# Altium integrated library Diodes - TVS.IntLib: 5379 symbols (part 65 of 122)
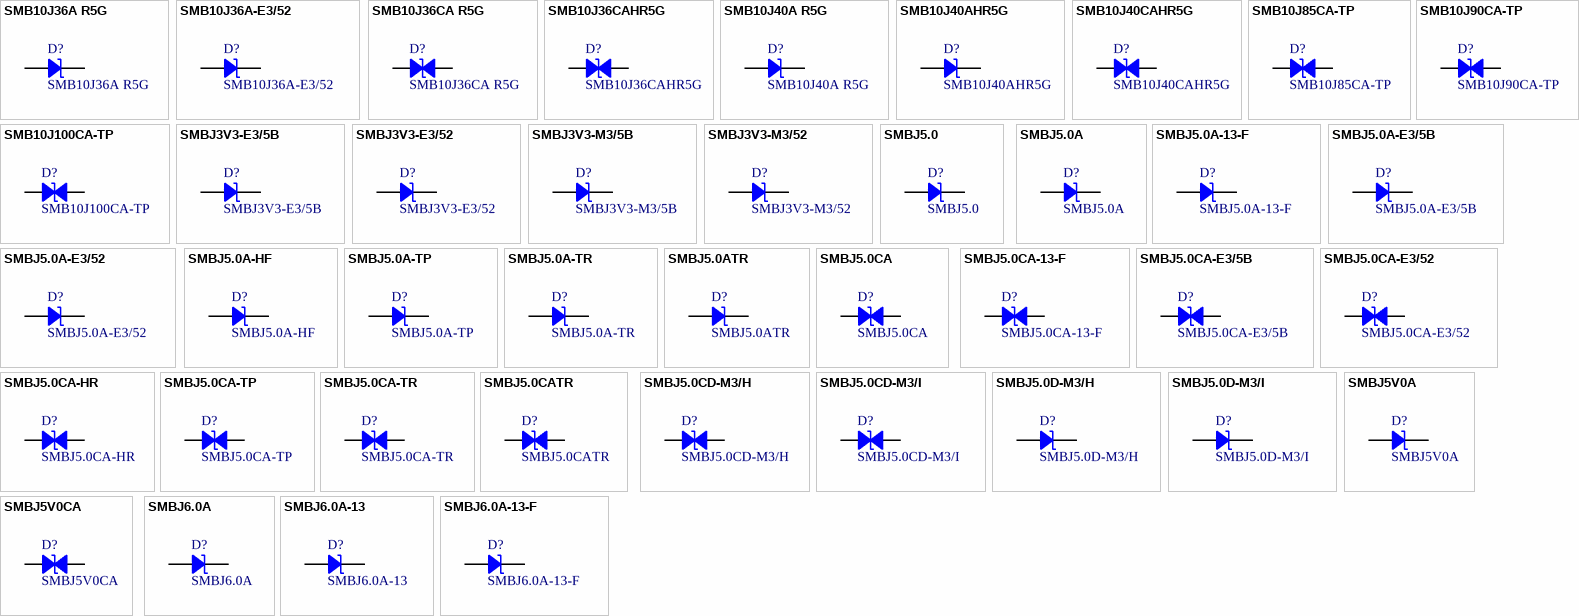
[diagram p198: symbols SMB10J36A R5G to SMBJ6.0A-13-F]

## SMBJ5.0CA-TP
designator D?
TVS DIODE 5V 9.2V DO214AA; Manufacturer: Micro Commercial Co; Bidirectional Channels: 1; Current - Peak Pulse (10/1000µs): 65.2A; Power Line Protection: No; Power - Peak Pulse: 600W; Type: Zener; Voltage - Breakdown (Min): 6.4V; Part Number: SMBJ5.0CA-TP; Applications: General Purpose; ComponentLink1Description: Datasheet; ComponentLink1URL: https://www.mccsemi.com/pdf/Products/SMBJ5.0-SMBJ440CA(DO-214AA).pdf; ComponentLink2Description: DigiKey Link; ComponentLink2URL: http://digikey.com/product-detail/en/micro-commercial-co/SMBJ5.0CA-TP/SMBJ5.0CA-TPMSCT-ND/1200635; LastUpdated: 9/2/2020 1:28:21 AM; Lifecycle Status: Active; Minimum Order: 1; Mounting Type: Surface Mount; Operating Temperature: -55°C ~ 175°C (TJ); Package / Case: DO-214AA, SMB; Packaging: TapeAndReel; PartId: 9555; Part Status: Active; Price: 0.10; Series: -; Supplier 1: DigiKey; Supplier Part Number 1: SMBJ5.0CA-TPMSCT-ND; Supplier Device Package: DO-214AA (SMB); Voltage - Clamping (Max) @ Ipp: 9.2V; Voltage - Reverse Standoff (Typ): 5V
footprint DO214AA SMB
pins: 1, 2

## SMBJ5.0CA-TR
designator D?
TVS DIODE 5V 13.4V SMB; Manufacturer: STMicroelectronics; Bidirectional Channels: 1; Current - Peak Pulse (10/1000µs): 68A; Power Line Protection: No; Power - Peak Pulse: 600W; Type: Zener; Voltage - Breakdown (Min): 6.4V; Voltage - Clamping (Max) @ Ipp: 9.2V; Part Number: SMBJ5.0CA-TR; Applications: General Purpose; ComponentLink1Description: Datasheet; ComponentLink1URL: http://www.st.com/content/ccc/resource/technical/document/datasheet/19/78/91/39/07/cd/40/65/CD00001366.pdf/files/CD00001366.pdf/_jcr_content/translations/en.CD00001366.pdf; ComponentLink2Description: DigiKey Link; ComponentLink2URL: http://digikey.com/product-detail/en/stmicroelectronics/SMBJ5.0CA-TR/497-3145-1-ND/654466; LastUpdated: 9/2/2020 1:28:22 AM; Lifecycle Status: Active; Minimum Order: 1; Mounting Type: Surface Mount; Operating Temperature: -55°C ~ 150°C (TJ); Package / Case: DO-214AA, SMB; Packaging: TapeAndReel; PartId: 9702; Part Status: Active; Price: 0.12; Series: SMBJ, TRANSIL™; Supplier 1: DigiKey; Supplier Part Number 1: 497-3145-1-ND; Supplier Device Package: SMB (DO-214AA); Voltage - Reverse Standoff (Typ): 5V
footprint DO214AA SMB
pins: 1, 2

## SMBJ5.0CATR
designator D?
TVS DIODE 5V 9.2V SMB; Manufacturer: SMC Diode Solutions; Bidirectional Channels: 1; Current - Peak Pulse (10/1000µs): 65.2A; Power Line Protection: No; Power - Peak Pulse: 600W; Type: Zener; Voltage - Breakdown (Min): 6.4V; Part Number: SMBJ5.0CATR; Applications: General Purpose; ComponentLink1Description: Datasheet; ComponentLink1URL: http://www.smc-diodes.com/propdf/SMBJ%20SERIES%20N0193%20REV.D.pdf; ComponentLink2Description: DigiKey Link; ComponentLink2URL: http://digikey.com/product-detail/en/smc-diode-solutions/SMBJ5.0CATR/1655-1635-1-ND/6023080; LastUpdated: 9/2/2020 1:28:22 AM; Lifecycle Status: Active; Minimum Order: 1; Mounting Type: Surface Mount; Operating Temperature: -55°C ~ 150°C (TJ); Package / Case: DO-214AA, SMB; Packaging: TapeAndReel; PartId: 9661; Part Status: Active; Price: 0.09; Series: SMBJ; Supplier 1: DigiKey; Supplier Part Number 1: 1655-1635-1-ND; Supplier Device Package: SMB (DO-214AA); Voltage - Clamping (Max) @ Ipp: 9.2V; Voltage - Reverse Standoff (Typ): 5V
footprint DO214AA SMB
pins: 1, 2

## SMBJ5.0CD-M3/H
designator D?
TVS DIODE 5V 9.1V DO214AA; Manufacturer: Vishay Semiconductor Diodes Division; Bidirectional Channels: 1; Current - Peak Pulse (10/1000µs): 65.9A; Power Line Protection: No; Power - Peak Pulse: 600W; Type: Zener; Voltage - Breakdown (Min): 6.5V; Part Number: SMBJ5.0CD-M3/H; Applications: General Purpose; ComponentLink1Description: Datasheet; ComponentLink1URL: http://www.vishay.com/docs/87606/87606.pdf; ComponentLink2Description: DigiKey Link; ComponentLink2URL: http://digikey.com/product-detail/en/vishay-semiconductor-diodes-division/SMBJ5.0CD-M3-H/SMBJ5.0CD-M3-HGICT-ND/5865074; LastUpdated: 9/2/2020 1:28:16 AM; Lifecycle Status: Active; Minimum Order: 1; Mounting Type: Surface Mount; Operating Temperature: -55°C ~ 150°C (TJ); Package / Case: DO-214AA, SMB; Packaging: TapeAndReel; PartId: 8937; Part Status: Active; Price: 0.20; Series: TransZorb®; Supplier 1: DigiKey; Supplier Part Number 1: SMBJ5.0CD-M3/HGICT-ND; Supplier Device Package: DO-214AA (SMBJ); Voltage - Clamping (Max) @ Ipp: 9.1V; Voltage - Reverse Standoff (Typ): 5V
footprint DO214AA SMB
pins: 1, 2

## SMBJ5.0CD-M3/I
designator D?
TVS DIODE 5V 9.1V DO214AA; Manufacturer: Vishay Semiconductor Diodes Division; Bidirectional Channels: 1; Current - Peak Pulse (10/1000µs): 65.9A; Power Line Protection: No; Power - Peak Pulse: 600W; Type: Zener; Voltage - Breakdown (Min): 6.5V; Part Number: SMBJ5.0CD-M3/I; Applications: General Purpose; ComponentLink1Description: Datasheet; ComponentLink1URL: http://www.vishay.com/docs/87606/87606.pdf; ComponentLink2Description: DigiKey Link; ComponentLink2URL: http://digikey.com/product-detail/en/vishay-semiconductor-diodes-division/SMBJ5.0CD-M3-I/SMBJ5.0CD-M3-IGICT-ND/7915520; LastUpdated: 9/2/2020 1:28:20 AM; Lifecycle Status: Active; Minimum Order: 1; Mounting Type: Surface Mount; Operating Temperature: -55°C ~ 150°C (TJ); Package / Case: DO-214AA, SMB; Packaging: TapeAndReel; PartId: 9385; Part Status: Active; Price: 0.13; Series: TransZorb®; Supplier 1: DigiKey; Supplier Part Number 1: SMBJ5.0CD-M3/IGICT-ND; Supplier Device Package: DO-214AA (SMBJ); Voltage - Clamping (Max) @ Ipp: 9.1V; Voltage - Reverse Standoff (Typ): 5V
footprint DO214AA SMB
pins: 1, 2

## SMBJ5.0D-M3/H
designator D?
TVS DIODE 5V 9.1V DO214AA; Manufacturer: Vishay Semiconductor Diodes Division; Current - Peak Pulse (10/1000µs): 65.9A; Power Line Protection: No; Power - Peak Pulse: 600W; Type: Zener; Unidirectional Channels: 1; Voltage - Breakdown (Min): 6.5V; Part Number: SMBJ5.0D-M3/H; Applications: General Purpose; ComponentLink1Description: Datasheet; ComponentLink1URL: http://www.vishay.com/docs/87606/87606.pdf; ComponentLink2Description: DigiKey Link; ComponentLink2URL: http://digikey.com/product-detail/en/vishay-semiconductor-diodes-division/SMBJ5.0D-M3-H/SMBJ5.0D-M3-HGICT-ND/5253056; LastUpdated: 9/2/2020 1:19:49 AM; Lifecycle Status: Active; Minimum Order: 1; Mounting Type: Surface Mount; Operating Temperature: -55°C ~ 150°C (TJ); Package / Case: DO-214AA, SMB; Packaging: TapeAndReel; PartId: 11193; Part Status: Active; Price: 0.15; Series: TransZorb®; Supplier 1: DigiKey; Supplier Part Number 1: SMBJ5.0D-M3/HGICT-ND; Supplier Device Package: DO-214AA (SMBJ); Voltage - Clamping (Max) @ Ipp: 9.1V; Voltage - Reverse Standoff (Typ): 5V
footprint DO214AA SMB
pins: 1, 2

## SMBJ5.0D-M3/I
designator D?
TVS DIODE 5V 9.1V DO214AA; Manufacturer: Vishay Semiconductor Diodes Division; Current - Peak Pulse (10/1000µs): 65.9A; Power Line Protection: No; Power - Peak Pulse: 600W; Type: Zener; Unidirectional Channels: 1; Voltage - Breakdown (Min): 6.5V; Part Number: SMBJ5.0D-M3/I; Applications: General Purpose; ComponentLink1Description: Datasheet; ComponentLink1URL: http://www.vishay.com/docs/87606/87606.pdf; ComponentLink2Description: DigiKey Link; ComponentLink2URL: http://digikey.com/product-detail/en/vishay-semiconductor-diodes-division/SMBJ5.0D-M3-I/SMBJ5.0D-M3-IGICT-ND/9601090; LastUpdated: 9/2/2020 1:19:47 AM; Lifecycle Status: Active; Minimum Order: 1; Mounting Type: Surface Mount; Operating Temperature: -55°C ~ 150°C (TJ); Package / Case: DO-214AA, SMB; Packaging: TapeAndReel; PartId: 10950; Part Status: Active; Price: 0.11; Series: TransZorb®; Supplier 1: DigiKey; Supplier Part Number 1: SMBJ5.0D-M3/IGICT-ND; Supplier Device Package: DO-214AA (SMBJ); Voltage - Clamping (Max) @ Ipp: 9.1V; Voltage - Reverse Standoff (Typ): 5V
footprint DO214AA SMB
pins: 1, 2

## SMBJ5V0A
designator D?
TVS DIODE 5V 9.2V DO214AA; Manufacturer: Taiwan Semiconductor Corporation; Current - Peak Pulse (10/1000µs): 65.2A; Power Line Protection: No; Power - Peak Pulse: 600W; Type: Zener; Unidirectional Channels: 1; Voltage - Breakdown (Min): 6.4V; Part Number: SMBJ5V0A; Applications: General Purpose; ComponentLink1Description: Datasheet; ComponentLink1URL: https://www.taiwansemi.com/products/datasheet/SMBJ%20SERIES_P1812.pdf; ComponentLink2Description: DigiKey Link; ComponentLink2URL: http://digikey.com/product-detail/en/taiwan-semiconductor-corporation/SMBJ5V0A/SMBJ5V0ACT-ND/1626272; LastUpdated: 9/2/2020 1:19:49 AM; Lifecycle Status: Active; Minimum Order: 1; Mounting Type: Surface Mount; Operating Temperature: -55°C ~ 150°C (TJ); Package / Case: DO-214AA, SMB; Packaging: TapeAndReel; PartId: 11125; Part Status: Active; Price: 0.14; Series: SMBJ; Supplier 1: DigiKey; Supplier Part Number 1: SMBJ5V0ACT-ND; Supplier Device Package: DO-214AA (SMB); Voltage - Clamping (Max) @ Ipp: 9.2V; Voltage - Reverse Standoff (Typ): 5V
footprint DO214AA SMB
pins: 1, 2

## SMBJ5V0CA
designator D?
TVS DIODE 5V 9.2V DO214AA; Manufacturer: Taiwan Semiconductor Corporation; Bidirectional Channels: 1; Current - Peak Pulse (10/1000µs): 65.2A; Power Line Protection: No; Power - Peak Pulse: 600W; Type: Zener; Voltage - Breakdown (Min): 6.4V; Part Number: SMBJ5V0CA; Applications: General Purpose; ComponentLink1Description: Datasheet; ComponentLink1URL: https://www.taiwansemi.com/products/datasheet/SMBJ5V0CA_F%20SERIES_A1806.pdf; ComponentLink2Description: DigiKey Link; ComponentLink2URL: http://digikey.com/product-detail/en/taiwan-semiconductor-corporation/SMBJ5V0CA/SMBJ5V0CACT-ND/2094453; LastUpdated: 9/2/2020 1:28:22 AM; Lifecycle Status: Active; Minimum Order: 1; Mounting Type: Surface Mount; Operating Temperature: -55°C ~ 150°C (TJ); Package / Case: DO-214AA, SMB; Packaging: TapeAndReel; PartId: 9626; Part Status: Active; Price: 0.17; Series: SMBJ; Supplier 1: DigiKey; Supplier Part Number 1: SMBJ5V0CACT-ND; Supplier Device Package: DO-214AA (SMB); Voltage - Clamping (Max) @ Ipp: 9.2V; Voltage - Reverse Standoff (Typ): 5V
footprint DO214AA SMB
pins: 1, 2

## SMBJ6.0A
designator D?
TVS DIODE 6V 10.3V SMB; Manufacturer: Bourns Inc.; Current - Peak Pulse (10/1000µs): 58.3A; Power Line Protection: No; Power - Peak Pulse: 600W; Type: Zener; Unidirectional Channels: 1; Voltage - Breakdown (Min): 6.67V; Part Number: SMBJ6.0A; Applications: General Purpose; ComponentLink1Description: Datasheet; ComponentLink1URL: https://www.bourns.com/docs/Product-Datasheets/SMBJ.pdf; ComponentLink2Description: DigiKey Link; ComponentLink2URL: http://digikey.com/product-detail/en/bourns-inc/SMBJ6.0A/SMBJ6.0ABCT-ND/2254181; LastUpdated: 9/2/2020 1:19:50 AM; Lifecycle Status: Active; Minimum Order: 1; Mounting Type: Surface Mount; Operating Temperature: -55°C ~ 150°C (TJ); Package / Case: DO-214AA, SMB; Packaging: TapeAndReel; PartId: 11232; Part Status: Active; Price: 0.10; Series: SMBJ; Supplier 1: DigiKey; Supplier Part Number 1: SMBJ6.0ABCT-ND; Supplier Device Package: SMB (DO-214AA); Voltage - Clamping (Max) @ Ipp: 10.3V; Voltage - Reverse Standoff (Typ): 6V
footprint DO214AA SMB
pins: 1, 2

## SMBJ6.0A-13
designator D?
TVS DIODE 6V 10.3V SMB; Manufacturer: Diodes Incorporated; Current - Peak Pulse (10/1000µs): 58.3A; Power Line Protection: No; Power - Peak Pulse: 600W; Type: Zener; Unidirectional Channels: 1; Voltage - Breakdown (Min): 6.67V; Part Number: SMBJ6.0A-13; Applications: General Purpose; ComponentLink1Description: Datasheet; ComponentLink1URL: //media.digikey.com/pdf/Data%20Sheets/Diodes%20PDFs/SMBJ5.0(C)A~SMBJ170(C)A.pdf; ComponentLink2Description: DigiKey Link; ComponentLink2URL: http://digikey.com/product-detail/en/diodes-incorporated/SMBJ6.0A-13/SMBJ6.0ADITR-ND/370737; LastUpdated: 9/2/2020 1:19:43 AM; Lifecycle Status: Active; Minimum Order: 0; Mounting Type: Surface Mount; Operating Temperature: -55°C ~ 150°C (TJ); Package / Case: DO-214AA, SMB; Packaging: TapeAndReel; PartId: 10587; Part Status: Active; Price: 0.32; Series: SMBJ; Supplier 1: DigiKey; Supplier Part Number 1: SMBJ6.0ADITR-ND; Supplier Device Package: SMB; Voltage - Clamping (Max) @ Ipp: 10.3V; Voltage - Reverse Standoff (Typ): 6V
footprint DO214AA SMB
pins: 1, 2

## SMBJ6.0A-13-F
designator D?
TVS DIODE 6V 10.3V SMB; Manufacturer: Diodes Incorporated; Current - Peak Pulse (10/1000µs): 58.3A; Power Line Protection: No; Power - Peak Pulse: 600W; Type: Zener; Unidirectional Channels: 1; Voltage - Breakdown (Min): 6.67V; Part Number: SMBJ6.0A-13-F; Applications: General Purpose; ComponentLink1Description: Datasheet; ComponentLink1URL: https://www.diodes.com/assets/Datasheets/ds19002.pdf; ComponentLink2Description: DigiKey Link; ComponentLink2URL: http://digikey.com/product-detail/en/diodes-incorporated/SMBJ6.0A-13-F/SMBJ6.0A-FDICT-ND/816091; LastUpdated: 9/2/2020 1:19:50 AM; Lifecycle Status: Active; Minimum Order: 1; Mounting Type: Surface Mount; Operating Temperature: -55°C ~ 150°C (TJ); Package / Case: DO-214AA, SMB; Packaging: TapeAndReel; PartId: 11243; Part Status: Active; Price: 0.09; Series: SMBJ; Supplier 1: DigiKey; Supplier Part Number 1: SMBJ6.0A-FDICT-ND; Supplier Device Package: SMB; Voltage - Clamping (Max) @ Ipp: 10.3V; Voltage - Reverse Standoff (Typ): 6V
footprint DO214AA SMB
pins: 1, 2

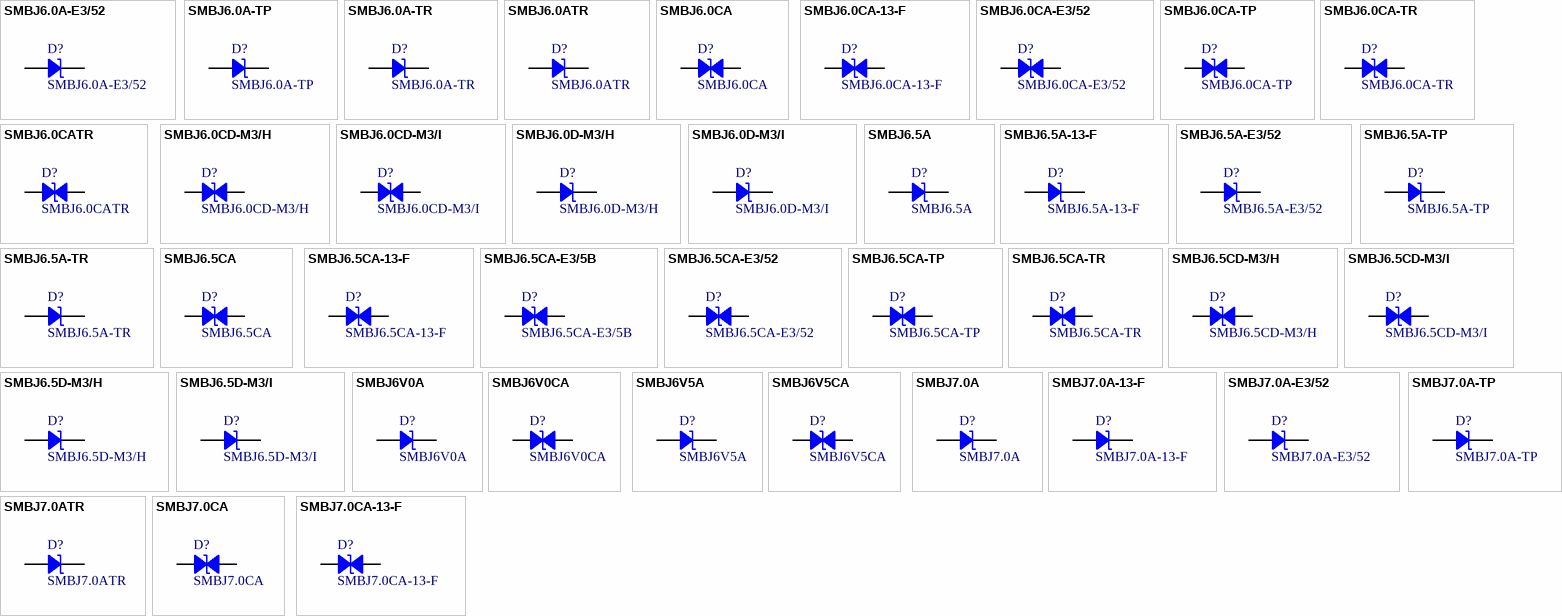
[diagram p71: symbols SMBJ6.0A-E3/52 to SMBJ7.0CA-13-F]

## SMBJ6.0A-E3/52
designator D?
TVS DIODE 6V 10.3V DO214AA; Manufacturer: Vishay Semiconductor Diodes Division; Current - Peak Pulse (10/1000µs): 58.3A; Power Line Protection: No; Power - Peak Pulse: 600W; Type: Zener; Unidirectional Channels: 1; Voltage - Breakdown (Min): 6.67V; Part Number: SMBJ6.0A-E3/52; Applications: General Purpose; ComponentLink1Description: Datasheet; ComponentLink1URL: http://www.vishay.com/docs/88392/smbj.pdf; ComponentLink2Description: DigiKey Link; ComponentLink2URL: http://digikey.com/product-detail/en/vishay-semiconductor-diodes-division/SMBJ6.0A-E3-52/SMBJ6.0A-E3-52GICT-ND/2413374; LastUpdated: 9/2/2020 1:19:49 AM; Lifecycle Status: Active; Minimum Order: 1; Mounting Type: Surface Mount; Operating Temperature: -55°C ~ 150°C (TJ); Package / Case: DO-214AA, SMB; Packaging: TapeAndReel; PartId: 11112; Part Status: Active; Price: 0.15; Series: TransZorb®; Supplier 1: DigiKey; Supplier Part Number 1: SMBJ6.0A-E3/52GICT-ND; Supplier Device Package: DO-214AA (SMBJ); Voltage - Clamping (Max) @ Ipp: 10.3V; Voltage - Reverse Standoff (Typ): 6V
footprint DO214AA SMB
pins: 1, 2

## SMBJ6.0A-TP
designator D?
TVS DIODE 6V 10.3V DO214AA; Manufacturer: Micro Commercial Co; Current - Peak Pulse (10/1000µs): 58.3A; Power Line Protection: No; Power - Peak Pulse: 600W; Type: Zener; Unidirectional Channels: 1; Voltage - Breakdown (Min): 6.67V; Part Number: SMBJ6.0A-TP; Applications: General Purpose; ComponentLink1Description: Datasheet; ComponentLink1URL: https://www.mccsemi.com/pdf/Products/SMBJ5.0-SMBJ440CA(DO-214AA).pdf; ComponentLink2Description: DigiKey Link; ComponentLink2URL: http://digikey.com/product-detail/en/micro-commercial-co/SMBJ6.0A-TP/SMBJ6.0A-TPMSCT-ND/1200636; LastUpdated: 9/2/2020 1:19:48 AM; Lifecycle Status: Active; Minimum Order: 1; Mounting Type: Surface Mount; Operating Temperature: -55°C ~ 175°C (TJ); Package / Case: DO-214AA, SMB; Packaging: TapeAndReel; PartId: 11053; Part Status: Active; Price: 0.10; Series: -; Supplier 1: DigiKey; Supplier Part Number 1: SMBJ6.0A-TPMSCT-ND; Supplier Device Package: DO-214AA (SMB); Voltage - Clamping (Max) @ Ipp: 10.3V; Voltage - Reverse Standoff (Typ): 6V
footprint DO214AA SMB
pins: 1, 2

## SMBJ6.0A-TR
designator D?
TVS DIODE 6V 13.7V SMB; Manufacturer: STMicroelectronics; Current - Peak Pulse (10/1000µs): 61A; Power Line Protection: No; Power - Peak Pulse: 600W; Type: Zener; Unidirectional Channels: 1; Voltage - Breakdown (Min): 6.7V; Voltage - Clamping (Max) @ Ipp: 10.3V; Part Number: SMBJ6.0A-TR; Applications: General Purpose; ComponentLink1Description: Datasheet; ComponentLink1URL: http://www.st.com/content/ccc/resource/technical/document/datasheet/19/78/91/39/07/cd/40/65/CD00001366.pdf/files/CD00001366.pdf/_jcr_content/translations/en.CD00001366.pdf; ComponentLink2Description: DigiKey Link; ComponentLink2URL: http://digikey.com/product-detail/en/stmicroelectronics/SMBJ6.0A-TR/497-3006-1-ND/634878; LastUpdated: 9/2/2020 1:19:49 AM; Lifecycle Status: Active; Minimum Order: 1; Mounting Type: Surface Mount; Operating Temperature: -55°C ~ 150°C (TJ); Package / Case: DO-214AA, SMB; Packaging: TapeAndReel; PartId: 11134; Part Status: Active; Price: 0.12; Series: SMBJ, TRANSIL™; Supplier 1: DigiKey; Supplier Part Number 1: 497-3006-1-ND; Supplier Device Package: SMB (DO-214AA); Voltage - Reverse Standoff (Typ): 6V
footprint DO214AA SMB
pins: 1, 2

## SMBJ6.0ATR
designator D?
TVS DIODE 6V 10.3V SMB; Manufacturer: SMC Diode Solutions; Current - Peak Pulse (10/1000µs): 58.3A; Power Line Protection: No; Power - Peak Pulse: 600W; Type: Zener; Unidirectional Channels: 1; Voltage - Breakdown (Min): 6.67V; Part Number: SMBJ6.0ATR; Applications: General Purpose; ComponentLink1Description: Datasheet; ComponentLink1URL: http://www.smc-diodes.com/propdf/SMBJ%20SERIES%20N0193%20REV.D.pdf; ComponentLink2Description: DigiKey Link; ComponentLink2URL: http://digikey.com/product-detail/en/smc-diode-solutions/SMBJ6.0ATR/1655-1638-1-ND/6023083; LastUpdated: 9/2/2020 1:19:51 AM; Lifecycle Status: Active; Minimum Order: 1; Mounting Type: Surface Mount; Operating Temperature: -55°C ~ 150°C (TJ); Package / Case: DO-214AA, SMB; Packaging: TapeAndReel; PartId: 11366; Part Status: Active; Price: 0.09; Series: SMBJ; Supplier 1: DigiKey; Supplier Part Number 1: 1655-1638-1-ND; Supplier Device Package: SMB (DO-214AA); Voltage - Clamping (Max) @ Ipp: 10.3V; Voltage - Reverse Standoff (Typ): 6V
footprint DO214AA SMB
pins: 1, 2

## SMBJ6.0CA
designator D?
TVS DIODE 6V 10.3V SMB; Manufacturer: Bourns Inc.; Bidirectional Channels: 1; Current - Peak Pulse (10/1000µs): 58.3A; Power Line Protection: No; Power - Peak Pulse: 600W; Type: Zener; Voltage - Breakdown (Min): 6.67V; Part Number: SMBJ6.0CA; Applications: General Purpose; ComponentLink1Description: Datasheet; ComponentLink1URL: https://www.bourns.com/docs/Product-Datasheets/SMBJ.pdf; ComponentLink2Description: DigiKey Link; ComponentLink2URL: http://digikey.com/product-detail/en/bourns-inc/SMBJ6.0CA/SMBJ6.0CABCT-ND/2254140; LastUpdated: 9/2/2020 1:28:19 AM; Lifecycle Status: Active; Minimum Order: 1; Mounting Type: Surface Mount; Operating Temperature: -55°C ~ 150°C (TJ); Package / Case: DO-214AA, SMB; Packaging: TapeAndReel; PartId: 9263; Part Status: Active; Price: 0.10; Series: SMBJ; Supplier 1: DigiKey; Supplier Part Number 1: SMBJ6.0CABCT-ND; Supplier Device Package: SMB (DO-214AA); Voltage - Clamping (Max) @ Ipp: 10.3V; Voltage - Reverse Standoff (Typ): 6V
footprint DO214AA SMB
pins: 1, 2

## SMBJ6.0CA-13-F
designator D?
TVS DIODE 6V 10.3V SMB; Manufacturer: Diodes Incorporated; Bidirectional Channels: 1; Current - Peak Pulse (10/1000µs): 58.3A; Power Line Protection: No; Power - Peak Pulse: 600W; Type: Zener; Voltage - Breakdown (Min): 6.67V; Part Number: SMBJ6.0CA-13-F; Applications: General Purpose; ComponentLink1Description: Datasheet; ComponentLink1URL: https://www.diodes.com/assets/Datasheets/ds19002.pdf; ComponentLink2Description: DigiKey Link; ComponentLink2URL: http://digikey.com/product-detail/en/diodes-incorporated/SMBJ6.0CA-13-F/SMBJ6.0CA-FDICT-ND/806585; LastUpdated: 9/2/2020 1:28:19 AM; Lifecycle Status: Active; Minimum Order: 1; Mounting Type: Surface Mount; Operating Temperature: -55°C ~ 150°C (TJ); Package / Case: DO-214AA, SMB; Packaging: TapeAndReel; PartId: 9287; Part Status: Active; Price: 0.10; Series: SMBJ; Supplier 1: DigiKey; Supplier Part Number 1: SMBJ6.0CA-FDICT-ND; Supplier Device Package: SMB; Voltage - Clamping (Max) @ Ipp: 10.3V; Voltage - Reverse Standoff (Typ): 6V
footprint DO214AA SMB
pins: 1, 2

## SMBJ6.0CA-E3/52
designator D?
TVS DIODE 6V 10.3V DO214AA; Manufacturer: Vishay Semiconductor Diodes Division; Bidirectional Channels: 1; Current - Peak Pulse (10/1000µs): 58.3A; Power Line Protection: No; Power - Peak Pulse: 600W; Type: Zener; Voltage - Breakdown (Min): 6.67V; Part Number: SMBJ6.0CA-E3/52; Applications: General Purpose; ComponentLink1Description: Datasheet; ComponentLink1URL: http://www.vishay.com/docs/88392/smbj.pdf; ComponentLink2Description: DigiKey Link; ComponentLink2URL: http://digikey.com/product-detail/en/vishay-semiconductor-diodes-division/SMBJ6.0CA-E3-52/SMBJ6.0CA-E3-52GICT-ND/2413473; LastUpdated: 9/2/2020 1:28:21 AM; Lifecycle Status: Active; Minimum Order: 1; Mounting Type: Surface Mount; Operating Temperature: -55°C ~ 150°C (TJ); Package / Case: DO-214AA, SMB; Packaging: TapeAndReel; PartId: 9464; Part Status: Active; Price: 0.19; Series: TransZorb®; Supplier 1: DigiKey; Supplier Part Number 1: SMBJ6.0CA-E3/52GICT-ND; Supplier Device Package: DO-214AA (SMBJ); Voltage - Clamping (Max) @ Ipp: 10.3V; Voltage - Reverse Standoff (Typ): 6V
footprint DO214AA SMB
pins: 1, 2

## SMBJ6.0CA-TP
designator D?
TVS DIODE 6V 10.3V DO214AA; Manufacturer: Micro Commercial Co; Bidirectional Channels: 1; Current - Peak Pulse (10/1000µs): 58.3A; Power Line Protection: No; Power - Peak Pulse: 600W; Type: Zener; Voltage - Breakdown (Min): 6.67V; Part Number: SMBJ6.0CA-TP; Applications: General Purpose; ComponentLink1Description: Datasheet; ComponentLink1URL: https://www.mccsemi.com/pdf/Products/SMBJ5.0-SMBJ440CA(DO-214AA).pdf; ComponentLink2Description: DigiKey Link; ComponentLink2URL: http://digikey.com/product-detail/en/micro-commercial-co/SMBJ6.0CA-TP/SMBJ6.0CA-TPMSCT-ND/1200637; LastUpdated: 9/2/2020 1:28:18 AM; Lifecycle Status: Active; Minimum Order: 1; Mounting Type: Surface Mount; Operating Temperature: -55°C ~ 175°C (TJ); Package / Case: DO-214AA, SMB; Packaging: TapeAndReel; PartId: 9190; Part Status: Active; Price: 0.10; Series: -; Supplier 1: DigiKey; Supplier Part Number 1: SMBJ6.0CA-TPMSCT-ND; Supplier Device Package: DO-214AA (SMB); Voltage - Clamping (Max) @ Ipp: 10.3V; Voltage - Reverse Standoff (Typ): 6V
footprint DO214AA SMB
pins: 1, 2

## SMBJ6.0CA-TR
designator D?
TVS DIODE 6V 13.7V SMB; Manufacturer: STMicroelectronics; Bidirectional Channels: 1; Current - Peak Pulse (10/1000µs): 61A; Power Line Protection: No; Power - Peak Pulse: 600W; Type: Zener; Voltage - Breakdown (Min): 6.7V; Voltage - Clamping (Max) @ Ipp: 10.3V; Part Number: SMBJ6.0CA-TR; Applications: General Purpose; ComponentLink1Description: Datasheet; ComponentLink1URL: http://www.st.com/content/ccc/resource/technical/document/datasheet/19/78/91/39/07/cd/40/65/CD00001366.pdf/files/CD00001366.pdf/_jcr_content/translations/en.CD00001366.pdf; ComponentLink2Description: DigiKey Link; ComponentLink2URL: http://digikey.com/product-detail/en/stmicroelectronics/SMBJ6.0CA-TR/497-7454-1-ND/1883415; LastUpdated: 9/2/2020 1:28:15 AM; Lifecycle Status: Active; Minimum Order: 1; Mounting Type: Surface Mount; Operating Temperature: -55°C ~ 150°C (TJ); Package / Case: DO-214AA, SMB; Packaging: TapeAndReel; PartId: 8880; Part Status: Active; Price: 0.10; Series: SMBJ, TRANSIL™; Supplier 1: DigiKey; Supplier Part Number 1: 497-7454-1-ND; Supplier Device Package: SMB (DO-214AA); Voltage - Reverse Standoff (Typ): 6V
footprint DO214AA SMB
pins: 1, 2

## SMBJ6.0CATR
designator D?
TVS DIODE 6V 10.3V SMB; Manufacturer: SMC Diode Solutions; Bidirectional Channels: 1; Current - Peak Pulse (10/1000µs): 58.3A; Power Line Protection: No; Power - Peak Pulse: 600W; Type: Zener; Voltage - Breakdown (Min): 6.67V; Part Number: SMBJ6.0CATR; Applications: General Purpose; ComponentLink1Description: Datasheet; ComponentLink1URL: http://www.smc-diodes.com/propdf/SMBJ%20SERIES%20N0193%20REV.D.pdf; ComponentLink2Description: DigiKey Link; ComponentLink2URL: http://digikey.com/product-detail/en/smc-diode-solutions/SMBJ6.0CATR/1655-1639-1-ND/6023084; LastUpdated: 9/2/2020 1:28:18 AM; Lifecycle Status: Active; Minimum Order: 1; Mounting Type: Surface Mount; Operating Temperature: -55°C ~ 150°C (TJ); Package / Case: DO-214AA, SMB; Packaging: TapeAndReel; PartId: 9203; Part Status: Active; Price: 0.09; Series: SMBJ; Supplier 1: DigiKey; Supplier Part Number 1: 1655-1639-1-ND; Supplier Device Package: SMB (DO-214AA); Voltage - Clamping (Max) @ Ipp: 10.3V; Voltage - Reverse Standoff (Typ): 6V
footprint DO214AA SMB
pins: 1, 2

## SMBJ6.0CD-M3/H
designator D?
TVS DIODE 6V 10.2V DO214AA; Manufacturer: Vishay Semiconductor Diodes Division; Bidirectional Channels: 1; Current - Peak Pulse (10/1000µs): 58.9A; Power Line Protection: No; Power - Peak Pulse: 600W; Type: Zener; Voltage - Breakdown (Min): 6.77V; Part Number: SMBJ6.0CD-M3/H; Applications: General Purpose; ComponentLink1Description: Datasheet; ComponentLink1URL: http://www.vishay.com/docs/87606/87606.pdf; ComponentLink2Description: DigiKey Link; ComponentLink2URL: http://digikey.com/product-detail/en/vishay-semiconductor-diodes-division/SMBJ6.0CD-M3-H/SMBJ6.0CD-M3-HGICT-ND/5956723; LastUpdated: 9/2/2020 1:28:17 AM; Lifecycle Status: Active; Minimum Order: 1; Mounting Type: Surface Mount; Operating Temperature: -55°C ~ 150°C (TJ); Package / Case: DO-214AA, SMB; Packaging: TapeAndReel; PartId: 9050; Part Status: Active; Price: 0.20; Series: TransZorb®; Supplier 1: DigiKey; Supplier Part Number 1: SMBJ6.0CD-M3/HGICT-ND; Supplier Device Package: DO-214AA (SMBJ); Voltage - Clamping (Max) @ Ipp: 10.2V; Voltage - Reverse Standoff (Typ): 6V
footprint DO214AA SMB
pins: 1, 2

## SMBJ6.0CD-M3/I
designator D?
TVS DIODE 6V 10.2V DO214AA; Manufacturer: Vishay Semiconductor Diodes Division; Bidirectional Channels: 1; Current - Peak Pulse (10/1000µs): 58.9A; Power Line Protection: No; Power - Peak Pulse: 600W; Type: Zener; Voltage - Breakdown (Min): 6.77V; Part Number: SMBJ6.0CD-M3/I; Applications: General Purpose; ComponentLink1Description: Datasheet; ComponentLink1URL: http://www.vishay.com/docs/87606/87606.pdf; ComponentLink2Description: DigiKey Link; ComponentLink2URL: http://digikey.com/product-detail/en/vishay-semiconductor-diodes-division/SMBJ6.0CD-M3-I/SMBJ6.0CD-M3-IGICT-ND/9648437; LastUpdated: 9/2/2020 1:28:21 AM; Lifecycle Status: Active; Minimum Order: 1; Mounting Type: Surface Mount; Operating Temperature: -55°C ~ 150°C (TJ); Package / Case: DO-214AA, SMB; Packaging: TapeAndReel; PartId: 9482; Part Status: Active; Price: 0.13; Series: TransZorb®; Supplier 1: DigiKey; Supplier Part Number 1: SMBJ6.0CD-M3/IGICT-ND; Supplier Device Package: DO-214AA (SMBJ); Voltage - Clamping (Max) @ Ipp: 10.2V; Voltage - Reverse Standoff (Typ): 6V
footprint DO214AA SMB
pins: 1, 2

## SMBJ6.0D-M3/H
designator D?
TVS DIODE 6V 10.2V DO214AA; Manufacturer: Vishay Semiconductor Diodes Division; Current - Peak Pulse (10/1000µs): 58.9A; Power Line Protection: No; Power - Peak Pulse: 600W; Type: Zener; Unidirectional Channels: 1; Voltage - Breakdown (Min): 6.77V; Part Number: SMBJ6.0D-M3/H; Applications: General Purpose; ComponentLink1Description: Datasheet; ComponentLink1URL: http://www.vishay.com/docs/87606/87606.pdf; ComponentLink2Description: DigiKey Link; ComponentLink2URL: http://digikey.com/product-detail/en/vishay-semiconductor-diodes-division/SMBJ6.0D-M3-H/SMBJ6.0D-M3-HGICT-ND/5253057; LastUpdated: 9/2/2020 1:19:51 AM; Lifecycle Status: Active; Minimum Order: 1; Mounting Type: Surface Mount; Operating Temperature: -55°C ~ 150°C (TJ); Package / Case: DO-214AA, SMB; Packaging: TapeAndReel; PartId: 11385; Part Status: Active; Price: 0.15; Series: TransZorb®; Supplier 1: DigiKey; Supplier Part Number 1: SMBJ6.0D-M3/HGICT-ND; Supplier Device Package: DO-214AA (SMBJ); Voltage - Clamping (Max) @ Ipp: 10.2V; Voltage - Reverse Standoff (Typ): 6V
footprint DO214AA SMB
pins: 1, 2

## SMBJ6.0D-M3/I
designator D?
TVS DIODE 6V 10.2V DO214AA; Manufacturer: Vishay Semiconductor Diodes Division; Current - Peak Pulse (10/1000µs): 58.9A; Power Line Protection: No; Power - Peak Pulse: 600W; Type: Zener; Unidirectional Channels: 1; Voltage - Breakdown (Min): 6.77V; Part Number: SMBJ6.0D-M3/I; Applications: General Purpose; ComponentLink1Description: Datasheet; ComponentLink1URL: http://www.vishay.com/docs/87606/87606.pdf; ComponentLink2Description: DigiKey Link; ComponentLink2URL: http://digikey.com/product-detail/en/vishay-semiconductor-diodes-division/SMBJ6.0D-M3-I/SMBJ6.0D-M3-IGICT-ND/9648438; LastUpdated: 9/2/2020 1:19:48 AM; Lifecycle Status: Active; Minimum Order: 1; Mounting Type: Surface Mount; Operating Temperature: -55°C ~ 150°C (TJ); Package / Case: DO-214AA, SMB; Packaging: TapeAndReel; PartId: 11092; Part Status: Active; Price: 0.11; Series: TransZorb®; Supplier 1: DigiKey; Supplier Part Number 1: SMBJ6.0D-M3/IGICT-ND; Supplier Device Package: DO-214AA (SMBJ); Voltage - Clamping (Max) @ Ipp: 10.2V; Voltage - Reverse Standoff (Typ): 6V
footprint DO214AA SMB
pins: 1, 2

## SMBJ6.5A
designator D?
TVS DIODE 6.5V 11.2V SMB; Manufacturer: Bourns Inc.; Current - Peak Pulse (10/1000µs): 53.6A; Power Line Protection: No; Power - Peak Pulse: 600W; Type: Zener; Unidirectional Channels: 1; Voltage - Breakdown (Min): 7.22V; Part Number: SMBJ6.5A; Applications: General Purpose; ComponentLink1Description: Datasheet; ComponentLink1URL: https://www.bourns.com/docs/Product-Datasheets/SMBJ.pdf; ComponentLink2Description: DigiKey Link; ComponentLink2URL: http://digikey.com/product-detail/en/bourns-inc/SMBJ6.5A/SMBJ6.5ABCT-ND/2254177; LastUpdated: 9/2/2020 1:19:47 AM; Lifecycle Status: Active; Minimum Order: 1; Mounting Type: Surface Mount; Operating Temperature: -55°C ~ 150°C (TJ); Package / Case: DO-214AA, SMB; Packaging: TapeAndReel; PartId: 10896; Part Status: Active; Price: 0.09; Series: SMBJ; Supplier 1: DigiKey; Supplier Part Number 1: SMBJ6.5ABCT-ND; Supplier Device Package: SMB (DO-214AA); Voltage - Clamping (Max) @ Ipp: 11.2V; Voltage - Reverse Standoff (Typ): 6.5V
footprint DO214AA SMB
pins: 1, 2

## SMBJ6.5A-13-F
designator D?
TVS DIODE 6.5V 11.2V SMB; Manufacturer: Diodes Incorporated; Current - Peak Pulse (10/1000µs): 53.6A; Power Line Protection: No; Power - Peak Pulse: 600W; Type: Zener; Unidirectional Channels: 1; Voltage - Breakdown (Min): 7.22V; Part Number: SMBJ6.5A-13-F; Applications: General Purpose; ComponentLink1Description: Datasheet; ComponentLink1URL: https://www.diodes.com/assets/Datasheets/ds19002.pdf; ComponentLink2Description: DigiKey Link; ComponentLink2URL: http://digikey.com/product-detail/en/diodes-incorporated/SMBJ6.5A-13-F/SMBJ6.5A-FDICT-ND/768846; LastUpdated: 9/2/2020 1:19:50 AM; Lifecycle Status: Active; Minimum Order: 1; Mounting Type: Surface Mount; Operating Temperature: -55°C ~ 150°C (TJ); Package / Case: DO-214AA, SMB; Packaging: TapeAndReel; PartId: 11240; Part Status: Active; Price: 0.09; Series: SMBJ; Supplier 1: DigiKey; Supplier Part Number 1: SMBJ6.5A-FDICT-ND; Supplier Device Package: SMB; Voltage - Clamping (Max) @ Ipp: 11.2V; Voltage - Reverse Standoff (Typ): 6.5V
footprint DO214AA SMB
pins: 1, 2

## SMBJ6.5A-E3/52
designator D?
TVS DIODE 6.5V 11.2V DO214AA; Manufacturer: Vishay Semiconductor Diodes Division; Current - Peak Pulse (10/1000µs): 53.6A; Power Line Protection: No; Power - Peak Pulse: 600W; Type: Zener; Unidirectional Channels: 1; Voltage - Breakdown (Min): 7.22V; Part Number: SMBJ6.5A-E3/52; Applications: General Purpose; ComponentLink1Description: Datasheet; ComponentLink1URL: http://www.vishay.com/docs/88392/smbj.pdf; ComponentLink2Description: DigiKey Link; ComponentLink2URL: http://digikey.com/product-detail/en/vishay-semiconductor-diodes-division/SMBJ6.5A-E3-52/SMBJ6.5A-E3-52GICT-ND/2413365; LastUpdated: 9/2/2020 1:19:51 AM; Lifecycle Status: Active; Minimum Order: 1; Mounting Type: Surface Mount; Operating Temperature: -55°C ~ 150°C (TJ); Package / Case: DO-214AA, SMB; Packaging: TapeAndReel; PartId: 11383; Part Status: Active; Price: 0.15; Series: TransZorb®; Supplier 1: DigiKey; Supplier Part Number 1: SMBJ6.5A-E3/52GICT-ND; Supplier Device Package: DO-214AA (SMBJ); Voltage - Clamping (Max) @ Ipp: 11.2V; Voltage - Reverse Standoff (Typ): 6.5V
footprint DO214AA SMB
pins: 1, 2

## SMBJ6.5A-TP
designator D?
TVS DIODE 6.5V 11.2V DO214AA; Manufacturer: Micro Commercial Co; Current - Peak Pulse (10/1000µs): 53.6A; Power Line Protection: No; Power - Peak Pulse: 600W; Type: Zener; Unidirectional Channels: 1; Voltage - Breakdown (Min): 7.22V; Part Number: SMBJ6.5A-TP; Applications: General Purpose; ComponentLink1Description: Datasheet; ComponentLink1URL: https://www.mccsemi.com/pdf/Products/SMBJ5.0-SMBJ440CA(DO-214AA).pdf; ComponentLink2Description: DigiKey Link; ComponentLink2URL: http://digikey.com/product-detail/en/micro-commercial-co/SMBJ6.5A-TP/SMBJ6.5A-TPMSCT-ND/1200638; LastUpdated: 9/2/2020 1:19:46 AM; Lifecycle Status: Active; Minimum Order: 1; Mounting Type: Surface Mount; Operating Temperature: -55°C ~ 175°C (TJ); Package / Case: DO-214AA, SMB; Packaging: TapeAndReel; PartId: 10863; Part Status: Active; Price: 0.10; Series: -; Supplier 1: DigiKey; Supplier Part Number 1: SMBJ6.5A-TPMSCT-ND; Supplier Device Package: DO-214AA (SMB); Voltage - Clamping (Max) @ Ipp: 11.2V; Voltage - Reverse Standoff (Typ): 6.5V
footprint DO214AA SMB
pins: 1, 2

## SMBJ6.5A-TR
designator D?
TVS DIODE 6.5V 14.5V SMB; Manufacturer: STMicroelectronics; Current - Peak Pulse (10/1000µs): 56A; Power Line Protection: No; Power - Peak Pulse: 600W; Type: Zener; Unidirectional Channels: 1; Voltage - Breakdown (Min): 7.2V; Voltage - Clamping (Max) @ Ipp: 11.2V; Part Number: SMBJ6.5A-TR; Applications: General Purpose; ComponentLink1Description: Datasheet; ComponentLink1URL: http://www.st.com/content/ccc/resource/technical/document/datasheet/19/78/91/39/07/cd/40/65/CD00001366.pdf/files/CD00001366.pdf/_jcr_content/translations/en.CD00001366.pdf; ComponentLink2Description: DigiKey Link; ComponentLink2URL: http://digikey.com/product-detail/en/stmicroelectronics/SMBJ6.5A-TR/497-3007-1-ND/634892; LastUpdated: 9/2/2020 1:19:46 AM; Lifecycle Status: Active; Minimum Order: 1; Mounting Type: Surface Mount; Operating Temperature: -55°C ~ 150°C (TJ); Package / Case: DO-214AA, SMB; Packaging: TapeAndReel; PartId: 10873; Part Status: Active; Price: 0.10; Series: SMBJ, TRANSIL™; Supplier 1: DigiKey; Supplier Part Number 1: 497-3007-1-ND; Supplier Device Package: SMB (DO-214AA); Voltage - Reverse Standoff (Typ): 6.5V
footprint DO214AA SMB
pins: 1, 2

## SMBJ6.5CA
designator D?
TVS DIODE 6.5V 11.2V DO214AA; Manufacturer: Littelfuse Inc.; Bidirectional Channels: 1; Current - Peak Pulse (10/1000µs): 53.6A; Power Line Protection: No; Power - Peak Pulse: 600W; Type: Zener; Voltage - Breakdown (Min): 7.22V; Part Number: SMBJ6.5CA; Applications: General Purpose; ComponentLink1Description: Datasheet; ComponentLink1URL: https://www.littelfuse.com/~/media/electronics/datasheets/tvs_diodes/littelfuse_tvs_diode_smbj_datasheet.pdf.pdf; ComponentLink2Description: DigiKey Link; ComponentLink2URL: http://digikey.com/product-detail/en/littelfuse-inc/SMBJ6.5CA/SMBJ6.5CALFCT-ND/285959; LastUpdated: 9/2/2020 1:28:22 AM; Lifecycle Status: Active; Minimum Order: 1; Mounting Type: Surface Mount; Operating Temperature: -65°C ~ 150°C (TJ); Package / Case: DO-214AA, SMB; Packaging: TapeAndReel; PartId: 9695; Part Status: Active; Price: 0.11; Series: SMBJ; Supplier 1: DigiKey; Supplier Part Number 1: SMBJ6.5CALFCT-ND; Supplier Device Package: DO-214AA (SMBJ); Voltage - Clamping (Max) @ Ipp: 11.2V; Voltage - Reverse Standoff (Typ): 6.5V
footprint DO214AA SMB
pins: 1, 2

## SMBJ6.5CA-13-F
designator D?
TVS DIODE 6.5V 11.2V SMB; Manufacturer: Diodes Incorporated; Bidirectional Channels: 1; Current - Peak Pulse (10/1000µs): 53.6A; Power Line Protection: No; Power - Peak Pulse: 600W; Type: Zener; Voltage - Breakdown (Min): 7.22V; Part Number: SMBJ6.5CA-13-F; Applications: General Purpose; ComponentLink1Description: Datasheet; ComponentLink1URL: https://www.diodes.com/assets/Datasheets/ds19002.pdf; ComponentLink2Description: DigiKey Link; ComponentLink2URL: http://digikey.com/product-detail/en/diodes-incorporated/SMBJ6.5CA-13-F/SMBJ6.5CA-FDICT-ND/816092; LastUpdated: 9/2/2020 1:28:19 AM; Lifecycle Status: Active; Minimum Order: 1; Mounting Type: Surface Mount; Operating Temperature: -55°C ~ 150°C (TJ); Package / Case: DO-214AA, SMB; Packaging: TapeAndReel; PartId: 9276; Part Status: Active; Price: 0.10; Series: SMBJ; Supplier 1: DigiKey; Supplier Part Number 1: SMBJ6.5CA-FDICT-ND; Supplier Device Package: SMB; Voltage - Clamping (Max) @ Ipp: 11.2V; Voltage - Reverse Standoff (Typ): 6.5V
footprint DO214AA SMB
pins: 1, 2

## SMBJ6.5CA-E3/5B
designator D?
TVS DIODE 6.5V 11.2V DO214AA; Manufacturer: Vishay Semiconductor Diodes Division; Bidirectional Channels: 1; Current - Peak Pulse (10/1000µs): 53.6A; Power Line Protection: No; Power - Peak Pulse: 600W; Type: Zener; Voltage - Breakdown (Min): 7.22V; Part Number: SMBJ6.5CA-E3/5B; Applications: General Purpose; ComponentLink1Description: Datasheet; ComponentLink1URL: http://www.vishay.com/docs/88392/smbj.pdf; ComponentLink2Description: DigiKey Link; ComponentLink2URL: http://digikey.com/product-detail/en/vishay-semiconductor-diodes-division/SMBJ6.5CA-E3-5B/SMBJ6.5CA-E3-5BGICT-ND/9601097; LastUpdated: 9/2/2020 1:28:19 AM; Lifecycle Status: Active; Minimum Order: 1; Mounting Type: Surface Mount; Operating Temperature: -55°C ~ 150°C (TJ); Package / Case: DO-214AA, SMB; Packaging: TapeAndReel; PartId: 9229; Part Status: Active; Price: 0.12; Series: TransZorb®; Supplier 1: DigiKey; Supplier Part Number 1: SMBJ6.5CA-E3/5BGICT-ND; Supplier Device Package: DO-214AA (SMBJ); Voltage - Clamping (Max) @ Ipp: 11.2V; Voltage - Reverse Standoff (Typ): 6.5V
footprint DO214AA SMB
pins: 1, 2

## SMBJ6.5CA-E3/52
designator D?
TVS DIODE 6.5V 11.2V DO214AA; Manufacturer: Vishay Semiconductor Diodes Division; Bidirectional Channels: 1; Current - Peak Pulse (10/1000µs): 53.6A; Power Line Protection: No; Power - Peak Pulse: 600W; Type: Zener; Voltage - Breakdown (Min): 7.22V; Part Number: SMBJ6.5CA-E3/52; Applications: General Purpose; ComponentLink1Description: Datasheet; ComponentLink1URL: http://www.vishay.com/docs/88392/smbj.pdf; ComponentLink2Description: DigiKey Link; ComponentLink2URL: http://digikey.com/product-detail/en/vishay-semiconductor-diodes-division/SMBJ6.5CA-E3-52/SMBJ6.5CA-E3-52GICT-ND/2413361; LastUpdated: 9/2/2020 1:28:17 AM; Lifecycle Status: Active; Minimum Order: 1; Mounting Type: Surface Mount; Operating Temperature: -55°C ~ 150°C (TJ); Package / Case: DO-214AA, SMB; Packaging: TapeAndReel; PartId: 9018; Part Status: Active; Price: 0.19; Series: TransZorb®; Supplier 1: DigiKey; Supplier Part Number 1: SMBJ6.5CA-E3/52GICT-ND; Supplier Device Package: DO-214AA (SMBJ); Voltage - Clamping (Max) @ Ipp: 11.2V; Voltage - Reverse Standoff (Typ): 6.5V
footprint DO214AA SMB
pins: 1, 2

## SMBJ6.5CA-TP
designator D?
TVS DIODE 6.5V 11.2V DO214AA; Manufacturer: Micro Commercial Co; Bidirectional Channels: 1; Current - Peak Pulse (10/1000µs): 53.6A; Power Line Protection: No; Power - Peak Pulse: 600W; Type: Zener; Voltage - Breakdown (Min): 7.22V; Part Number: SMBJ6.5CA-TP; Applications: General Purpose; ComponentLink1Description: Datasheet; ComponentLink1URL: https://www.mccsemi.com/pdf/Products/SMBJ5.0-SMBJ440CA(DO-214AA).pdf; ComponentLink2Description: DigiKey Link; ComponentLink2URL: http://digikey.com/product-detail/en/micro-commercial-co/SMBJ6.5CA-TP/SMBJ6.5CA-TPMSCT-ND/1200639; LastUpdated: 9/2/2020 1:28:20 AM; Lifecycle Status: Active; Minimum Order: 1; Mounting Type: Surface Mount; Operating Temperature: -55°C ~ 175°C (TJ); Package / Case: DO-214AA, SMB; Packaging: TapeAndReel; PartId: 9422; Part Status: Active; Price: 0.10; Series: -; Supplier 1: DigiKey; Supplier Part Number 1: SMBJ6.5CA-TPMSCT-ND; Supplier Device Package: DO-214AA (SMB); Voltage - Clamping (Max) @ Ipp: 11.2V; Voltage - Reverse Standoff (Typ): 6.5V
footprint DO214AA SMB
pins: 1, 2

## SMBJ6.5CA-TR
designator D?
TVS DIODE 6.5V 14.5V SMB; Manufacturer: STMicroelectronics; Bidirectional Channels: 1; Current - Peak Pulse (10/1000µs): 56A; Power Line Protection: No; Power - Peak Pulse: 600W; Type: Zener; Voltage - Breakdown (Min): 7.2V; Voltage - Clamping (Max) @ Ipp: 11.2V; Part Number: SMBJ6.5CA-TR; Applications: General Purpose; ComponentLink1Description: Datasheet; ComponentLink1URL: http://www.st.com/content/ccc/resource/technical/document/datasheet/19/78/91/39/07/cd/40/65/CD00001366.pdf/files/CD00001366.pdf/_jcr_content/translations/en.CD00001366.pdf; ComponentLink2Description: DigiKey Link; ComponentLink2URL: http://digikey.com/product-detail/en/stmicroelectronics/SMBJ6.5CA-TR/497-3146-1-ND/654468; LastUpdated: 9/2/2020 1:28:15 AM; Lifecycle Status: Active; Minimum Order: 1; Mounting Type: Surface Mount; Operating Temperature: -55°C ~ 150°C (TJ); Package / Case: DO-214AA, SMB; Packaging: TapeAndReel; PartId: 8879; Part Status: Active; Price: 0.10; Series: SMBJ, TRANSIL™; Supplier 1: DigiKey; Supplier Part Number 1: 497-3146-1-ND; Supplier Device Package: SMB (DO-214AA); Voltage - Reverse Standoff (Typ): 6.5V
footprint DO214AA SMB
pins: 1, 2

## SMBJ6.5CD-M3/H
designator D?
TVS DIODE 6.5V 11V DO214AA; Manufacturer: Vishay Semiconductor Diodes Division; Bidirectional Channels: 1; Current - Peak Pulse (10/1000µs): 54.5A; Power Line Protection: No; Power - Peak Pulse: 600W; Type: Zener; Voltage - Breakdown (Min): 7.33V; Part Number: SMBJ6.5CD-M3/H; Applications: General Purpose; ComponentLink1Description: Datasheet; ComponentLink1URL: http://www.vishay.com/docs/87606/87606.pdf; ComponentLink2Description: DigiKey Link; ComponentLink2URL: http://digikey.com/product-detail/en/vishay-semiconductor-diodes-division/SMBJ6.5CD-M3-H/SMBJ6.5CD-M3-HGICT-ND/5865075; LastUpdated: 9/2/2020 1:28:20 AM; Lifecycle Status: Active; Minimum Order: 1; Mounting Type: Surface Mount; Operating Temperature: -55°C ~ 150°C (TJ); Package / Case: DO-214AA, SMB; Packaging: TapeAndReel; PartId: 9340; Part Status: Active; Price: 0.20; Series: TransZorb®; Supplier 1: DigiKey; Supplier Part Number 1: SMBJ6.5CD-M3/HGICT-ND; Supplier Device Package: DO-214AA (SMBJ); Voltage - Clamping (Max) @ Ipp: 11V; Voltage - Reverse Standoff (Typ): 6.5V
footprint DO214AA SMB
pins: 1, 2

## SMBJ6.5CD-M3/I
designator D?
TVS DIODE 6.5V 11V DO214AA; Manufacturer: Vishay Semiconductor Diodes Division; Bidirectional Channels: 1; Current - Peak Pulse (10/1000µs): 54.5A; Power Line Protection: No; Power - Peak Pulse: 600W; Type: Zener; Voltage - Breakdown (Min): 7.33V; Part Number: SMBJ6.5CD-M3/I; Applications: General Purpose; ComponentLink1Description: Datasheet; ComponentLink1URL: http://www.vishay.com/docs/87606/87606.pdf; ComponentLink2Description: DigiKey Link; ComponentLink2URL: http://digikey.com/product-detail/en/vishay-semiconductor-diodes-division/SMBJ6.5CD-M3-I/SMBJ6.5CD-M3-IGICT-ND/9648439; LastUpdated: 9/2/2020 1:28:21 AM; Lifecycle Status: Active; Minimum Order: 1; Mounting Type: Surface Mount; Operating Temperature: -55°C ~ 150°C (TJ); Package / Case: DO-214AA, SMB; Packaging: TapeAndReel; PartId: 9489; Part Status: Active; Price: 0.13; Series: TransZorb®; Supplier 1: DigiKey; Supplier Part Number 1: SMBJ6.5CD-M3/IGICT-ND; Supplier Device Package: DO-214AA (SMBJ); Voltage - Clamping (Max) @ Ipp: 11V; Voltage - Reverse Standoff (Typ): 6.5V
footprint DO214AA SMB
pins: 1, 2

## SMBJ6.5D-M3/H
designator D?
TVS DIODE 6.5V 11V DO214AA; Manufacturer: Vishay Semiconductor Diodes Division; Current - Peak Pulse (10/1000µs): 54.5A; Power Line Protection: No; Power - Peak Pulse: 600W; Type: Zener; Unidirectional Channels: 1; Voltage - Breakdown (Min): 7.33V; Part Number: SMBJ6.5D-M3/H; Applications: General Purpose; ComponentLink1Description: Datasheet; ComponentLink1URL: http://www.vishay.com/docs/87606/87606.pdf; ComponentLink2Description: DigiKey Link; ComponentLink2URL: http://digikey.com/product-detail/en/vishay-semiconductor-diodes-division/SMBJ6.5D-M3-H/SMBJ6.5D-M3-HGICT-ND/5400807; LastUpdated: 9/2/2020 1:19:48 AM; Lifecycle Status: Active; Minimum Order: 1; Mounting Type: Surface Mount; Operating Temperature: -55°C ~ 150°C (TJ); Package / Case: DO-214AA, SMB; Packaging: TapeAndReel; PartId: 11039; Part Status: Active; Price: 0.15; Series: TransZorb®; Supplier 1: DigiKey; Supplier Part Number 1: SMBJ6.5D-M3/HGICT-ND; Supplier Device Package: DO-214AA (SMBJ); Voltage - Clamping (Max) @ Ipp: 11V; Voltage - Reverse Standoff (Typ): 6.5V
footprint DO214AA SMB
pins: 1, 2

## SMBJ6.5D-M3/I
designator D?
TVS DIODE 6.5V 11V DO214AA; Manufacturer: Vishay Semiconductor Diodes Division; Current - Peak Pulse (10/1000µs): 54.5A; Power Line Protection: No; Power - Peak Pulse: 600W; Type: Zener; Unidirectional Channels: 1; Voltage - Breakdown (Min): 7.33V; Part Number: SMBJ6.5D-M3/I; Applications: General Purpose; ComponentLink1Description: Datasheet; ComponentLink1URL: http://www.vishay.com/docs/87606/87606.pdf; ComponentLink2Description: DigiKey Link; ComponentLink2URL: http://digikey.com/product-detail/en/vishay-semiconductor-diodes-division/SMBJ6.5D-M3-I/SMBJ6.5D-M3-IGICT-ND/9648440; LastUpdated: 9/2/2020 1:19:48 AM; Lifecycle Status: Active; Minimum Order: 1; Mounting Type: Surface Mount; Operating Temperature: -55°C ~ 150°C (TJ); Package / Case: DO-214AA, SMB; Packaging: TapeAndReel; PartId: 11091; Part Status: Active; Price: 0.11; Series: TransZorb®; Supplier 1: DigiKey; Supplier Part Number 1: SMBJ6.5D-M3/IGICT-ND; Supplier Device Package: DO-214AA (SMBJ); Voltage - Clamping (Max) @ Ipp: 11V; Voltage - Reverse Standoff (Typ): 6.5V
footprint DO214AA SMB
pins: 1, 2

## SMBJ6V0A
designator D?
TVS DIODE 6V 10.3V DO214AA; Manufacturer: Taiwan Semiconductor Corporation; Current - Peak Pulse (10/1000µs): 58.3A; Power Line Protection: No; Power - Peak Pulse: 600W; Type: Zener; Unidirectional Channels: 1; Voltage - Breakdown (Min): 6.67V; Part Number: SMBJ6V0A; Applications: General Purpose; ComponentLink1Description: Datasheet; ComponentLink1URL: https://www.taiwansemi.com/products/datasheet/SMBJ%20SERIES_P1812.pdf; ComponentLink2Description: DigiKey Link; ComponentLink2URL: http://digikey.com/product-detail/en/taiwan-semiconductor-corporation/SMBJ6V0A/SMBJ6V0ACT-ND/3504395; LastUpdated: 9/2/2020 1:19:49 AM; Lifecycle Status: Active; Minimum Order: 1; Mounting Type: Surface Mount; Operating Temperature: -55°C ~ 150°C (TJ); Package / Case: DO-214AA, SMB; Packaging: TapeAndReel; PartId: 11126; Part Status: Active; Price: 0.14; Series: SMBJ; Supplier 1: DigiKey; Supplier Part Number 1: SMBJ6V0ACT-ND; Supplier Device Package: DO-214AA (SMB); Voltage - Clamping (Max) @ Ipp: 10.3V; Voltage - Reverse Standoff (Typ): 6V
footprint DO214AA SMB
pins: 1, 2

## SMBJ6V0CA
designator D?
TVS DIODE 6V 10.3V DO214AA; Manufacturer: Taiwan Semiconductor Corporation; Bidirectional Channels: 1; Current - Peak Pulse (10/1000µs): 58.3A; Power Line Protection: No; Power - Peak Pulse: 600W; Type: Zener; Voltage - Breakdown (Min): 6.67V; Part Number: SMBJ6V0CA; Applications: General Purpose; ComponentLink1Description: Datasheet; ComponentLink1URL: https://www.taiwansemi.com/products/datasheet/SMBJ5V0CA_F%20SERIES_A1806.pdf; ComponentLink2Description: DigiKey Link; ComponentLink2URL: http://digikey.com/product-detail/en/taiwan-semiconductor-corporation/SMBJ6V0CA/SMBJ6V0CACT-ND/3504559; LastUpdated: 9/2/2020 1:28:20 AM; Lifecycle Status: Active; Minimum Order: 1; Mounting Type: Surface Mount; Operating Temperature: -55°C ~ 150°C (TJ); Package / Case: DO-214AA, SMB; Packaging: TapeAndReel; PartId: 9398; Part Status: Active; Price: 0.16; Series: SMBJ; Supplier 1: DigiKey; Supplier Part Number 1: SMBJ6V0CACT-ND; Supplier Device Package: DO-214AA (SMB); Voltage - Clamping (Max) @ Ipp: 10.3V; Voltage - Reverse Standoff (Typ): 6V
footprint DO214AA SMB
pins: 1, 2

## SMBJ6V5A
designator D?
TVS DIODE 6.5V 11.2V DO214AA; Manufacturer: Taiwan Semiconductor Corporation; Current - Peak Pulse (10/1000µs): 53.6A; Power Line Protection: No; Power - Peak Pulse: 600W; Type: Zener; Unidirectional Channels: 1; Voltage - Breakdown (Min): 7.22V; Part Number: SMBJ6V5A; Applications: General Purpose; ComponentLink1Description: Datasheet; ComponentLink1URL: https://www.taiwansemi.com/products/datasheet/SMBJ%20SERIES_P1812.pdf; ComponentLink2Description: DigiKey Link; ComponentLink2URL: http://digikey.com/product-detail/en/taiwan-semiconductor-corporation/SMBJ6V5A/SMBJ6V5ACT-ND/4314865; LastUpdated: 9/2/2020 1:19:45 AM; Lifecycle Status: Active; Minimum Order: 1; Mounting Type: Surface Mount; Operating Temperature: -55°C ~ 150°C (TJ); Package / Case: DO-214AA, SMB; Packaging: TapeAndReel; PartId: 10722; Part Status: Active; Price: 0.14; Series: SMBJ; Supplier 1: DigiKey; Supplier Part Number 1: SMBJ6V5ACT-ND; Supplier Device Package: DO-214AA (SMB); Voltage - Clamping (Max) @ Ipp: 11.2V; Voltage - Reverse Standoff (Typ): 6.5V
footprint DO214AA SMB
pins: 1, 2

## SMBJ6V5CA
designator D?
TVS DIODE 6.5V 11.2V DO214AA; Manufacturer: Taiwan Semiconductor Corporation; Bidirectional Channels: 1; Current - Peak Pulse (10/1000µs): 53.6A; Power Line Protection: No; Power - Peak Pulse: 600W; Type: Zener; Voltage - Breakdown (Min): 7.22V; Part Number: SMBJ6V5CA; Applications: General Purpose; ComponentLink1Description: Datasheet; ComponentLink1URL: https://www.taiwansemi.com/products/datasheet/SMBJ5V0CA_F%20SERIES_A1806.pdf; ComponentLink2Description: DigiKey Link; ComponentLink2URL: http://digikey.com/product-detail/en/taiwan-semiconductor-corporation/SMBJ6V5CA/SMBJ6V5CACT-ND/3504404; LastUpdated: 9/2/2020 1:28:17 AM; Lifecycle Status: Active; Minimum Order: 1; Mounting Type: Surface Mount; Operating Temperature: -55°C ~ 150°C (TJ); Package / Case: DO-214AA, SMB; Packaging: TapeAndReel; PartId: 9019; Part Status: Active; Price: 0.14; Series: SMBJ; Supplier 1: DigiKey; Supplier Part Number 1: SMBJ6V5CACT-ND; Supplier Device Package: DO-214AA (SMB); Voltage - Clamping (Max) @ Ipp: 11.2V; Voltage - Reverse Standoff (Typ): 6.5V
footprint DO214AA SMB
pins: 1, 2